# Altium schematic symbol library Isolator_Analog.SchLib: 7 symbols
Pins are listed as number, name and electrical type; pins without a type are passive.

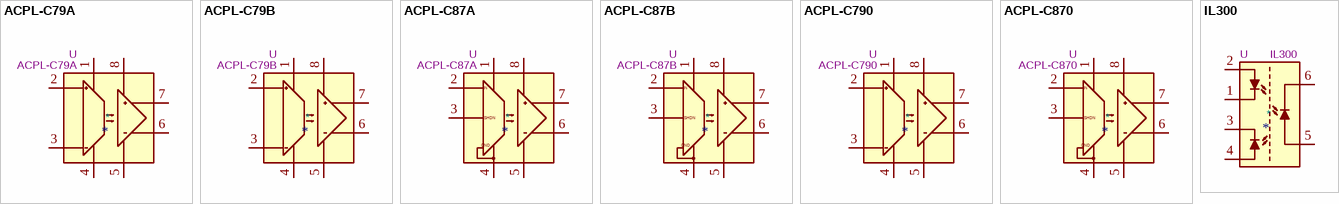
[diagram p0: symbols ACPL-C79A to IL300]

## ACPL-C79A
designator *  value ACPL-C79A  Reference: U
ki_keywords: Isolation Amplifer; ki_description: Precision Isolation Amplifer, ±1% Gain Tolerance, Bandwidth 200kHz, SSO-8; ki_fp_filters: SSO*6.8x5.9mm*P1.27mm*Clearance8mm*; Footprint: Package_SO:SSO-8_6.8x5.9mm_P1.27mm_Clearance8mm; Datasheet: http://docs.avagotech.com/docs/AV02-2460EN
pins: 1 VDD1, 2 IN+, 3 IN-, 4 GND1, 5 GND2, 6 OUT-, 7 OUT+, 8 VDD2

## ACPL-C79B
designator *  value ACPL-C79B  Reference: U
ki_keywords: Isolation Amplifer; ki_description: Precision Isolation Amplifer, ±0.5% Gain Tolerance, Bandwidth 200kHz, SSO-8; ki_fp_filters: SSO*6.8x5.9mm*P1.27mm*Clearance8mm*; Footprint: Package_SO:SSO-8_6.8x5.9mm_P1.27mm_Clearance8mm; Datasheet: http://docs.avagotech.com/docs/AV02-2460EN
pins: 1 VDD1, 2 IN+, 3 IN-, 4 GND1, 5 GND2, 6 OUT-, 7 OUT+, 8 VDD2

## ACPL-C87A
designator *  value ACPL-C87A  Reference: U
ki_keywords: Optycally Isolated Voltage Sensor; ki_description: Precision Optycally Isolated Voltage Sensor, ±1% Gain Tolerance, Bandwidth 100kHz, SSO-8; ki_fp_filters: SSO*6.8x5.9mm*P1.27mm*Clearance8mm*; Footprint: Package_SO:SSO-8_6.8x5.9mm_P1.27mm_Clearance8mm; Datasheet: www.avagotech.com/docs/AV02-3563EN
pins: 1 VDD1, 2 IN, 3 IN-, 4 GND1, 5 GND2, 6 OUT-, 7 OUT+, 8 VDD2
text: SHDN; GND

## ACPL-C87B
designator *  value ACPL-C87B  Reference: U
ki_keywords: Optycally Isolated Voltage Sensor; ki_description: Precision Optycally Isolated Voltage Sensor, ±0.5% Gain Tolerance, Bandwidth 100kHz, SSO-8; ki_fp_filters: SSO*6.8x5.9mm*P1.27mm*Clearance8mm*; Footprint: Package_SO:SSO-8_6.8x5.9mm_P1.27mm_Clearance8mm; Datasheet: www.avagotech.com/docs/AV02-3563EN
pins: 1 VDD1, 2 IN, 3 IN-, 4 GND1, 5 GND2, 6 OUT-, 7 OUT+, 8 VDD2
text: SHDN; GND

## ACPL-C790
designator *  value ACPL-C790  Reference: U
ki_keywords: Isolation Amplifer; ki_description: Precision Isolation Amplifer, ±3% Gain Tolerance, Bandwidth 200kHz, SSO-8; ki_fp_filters: SSO*6.8x5.9mm*P1.27mm*Clearance8mm*; Footprint: Package_SO:SSO-8_6.8x5.9mm_P1.27mm_Clearance8mm; Datasheet: http://docs.avagotech.com/docs/AV02-2460EN
pins: 1 VDD1, 2 IN+, 3 IN-, 4 GND1, 5 GND2, 6 OUT-, 7 OUT+, 8 VDD2

## ACPL-C870
designator *  value ACPL-C870  Reference: U
ki_keywords: Optycally Isolated Voltage Sensor; ki_description: Precision Optycally Isolated Voltage Sensor, ±3% Gain Tolerance, Bandwidth 100kHz, SSO-8; ki_fp_filters: SSO*6.8x5.9mm*P1.27mm*Clearance8mm*; Footprint: Package_SO:SSO-8_6.8x5.9mm_P1.27mm_Clearance8mm; Datasheet: www.avagotech.com/docs/AV02-3563EN
pins: 1 VDD1, 2 IN, 3 IN-, 4 GND1, 5 GND2, 6 OUT-, 7 OUT+, 8 VDD2
text: SHDN; GND

## IL300
designator *  value IL300  Reference: U
ki_keywords: Isolated Linear Photocoupler; ki_description: Isolated Linear Photocoupler, High Gain, Wideband, DIP8/SMD-DIP8; ki_fp_filters: DIP*W7.62mm* DIP*W10.16mm* SMDIP*W7.62mm* SMDIP*W9.53mm* SMDIP*W11.48mm*; Datasheet: http://www.vishay.com/docs/83622/il300.pdf
pins: 1, 2, 3, 4, 5, 6, 7 NC hidden, 8 NC hidden